# EAGLE library part WE-D-SUB_SMD90_244617113 (library WE-D-SUB)
WE-D-SUB Filter Bent 90° SMT Characteristics Standard type filtered with 1000 pF High attenuation of more than 40 dB @ 180 MHz Low size: 6.3 mm Rated voltage: 125 VDC Rated current @ 20 ºC: 5 A Withstand voltage: 250 VRMS Insulation resistance: min. 1000 MΩ Operating temperature: –55 ºC to +125 ºC Applications Filtering of interfaces External connection to -printer -sensor -display <https://katalog.we-online.de/media/images/v2/o14706v209%20Family_240117113_240617113.jpg> Details see: https://katalog.we-online.de/en/pbs/D-SUB-FILTER-BENT90-SMD Updated by Ella Wu 2019-09-10 2019(C) Wurth Elektronik
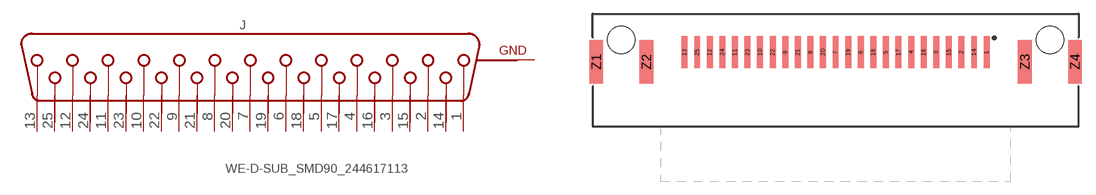
[diagram p1: symbol with the pads of WE-D-SUB_SMD90_244617113; footprint WE-D-SUB_SMD90_244617113]

Designator prefix J

## WE-D-SUB_SMD90_244617113 (DATASHEET-URL: https://katalog.we-online.de/pbs/datasheet/244617113.pdf; MOUNT: SMT; PART-NUMBER: 244617113; POLES: 25; TYPE: Female)  [WE-D-SUB_SMD90_244617113]
1  13  pas
2  12  pas
3  11  pas
4  10  pas
5  9  pas
6  8  pas
7  7  pas
8  6  pas
9  5  pas
10  4  pas
11  3  pas
12  2  pas
13  1  pas
14  25  pas
15  24  pas
16  23  pas
17  22  pas
18  21  pas
19  20  pas
20  19  pas
21  18  pas
22  17  pas
23  16  pas
24  15  pas
25  14  pas
Z1  GND  pwr
Z2  GND  pwr
Z3  GND  pwr
Z4  GND  pwr

## Footprint WE-D-SUB_SMD90_244617113 (pad centres in mm)
WE-D-SUB Filter Bent 90° SMT 25 Poles , Female
smd 0.65 x 3.5: 1 16.56,-1.35; 2 13.8,-1.35; 3 11.04,-1.35; 4 8.28,-1.35; 5 5.52,-1.35; 6 2.76,-1.35; 7 0,-1.35; 8 -2.76,-1.35; 9 -5.52,-1.35; 10 -8.28,-1.35; 11 -11.04,-1.35; 12 -13.8,-1.35; 13 -16.56,-1.35; 14 15.18,-1.35; 15 12.42,-1.35; 16 9.66,-1.35; 17 6.9,-1.35; 18 4.14,-1.35; 19 1.38,-1.35; 20 -1.38,-1.35; 21 -4.14,-1.35; 22 -6.9,-1.35; 23 -9.66,-1.35; 24 -12.42,-1.35; 25 -15.18,-1.35
smd 1.5 x 4.8: Z1 -26.25,-2.4; Z2 -20.75,-2.4; Z3 20.75,-2.4; Z4 26.25,-2.4
hole 3 at -23.5,0
hole 3 at 23.5,0